# EAGLE library part ADS1292 (library James_custom)
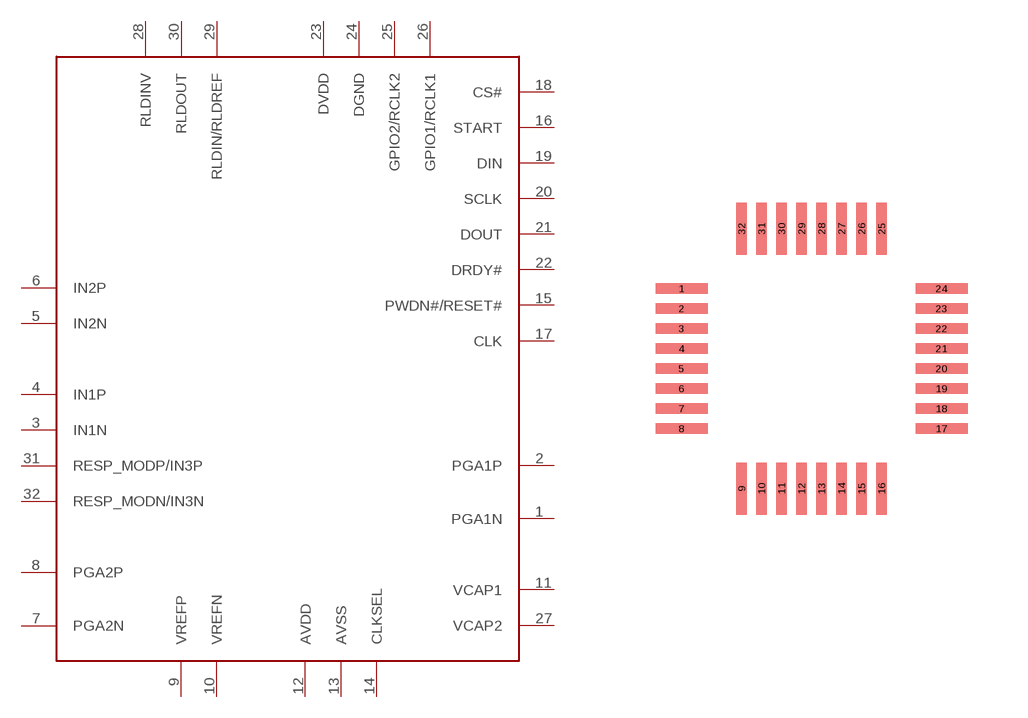
[diagram p26: symbol with the pads of TQFP32; footprint TQFP32]

Designator prefix -

## ADS1292  [TQFP32]
1  PGA1N
2  PGA1P
3  IN1N
4  IN1P
5  IN2N
6  IN2P
7  PGA2N
8  PGA2P
9  VREFP
10  VREFN
11  VCAP1
12  AVDD
13  AVSS
14  CLKSEL
15  PWDN#/RESET#
16  START
17  CLK
18  CS#
19  DIN
20  SCLK
21  DOUT
22  DRDY#
23  DVDD
24  DGND
25  GPIO2/RCLK2
26  GPIO1/RCLK1
27  VCAP2
28  RLDINV
29  RLDIN/RLDREF
30  RLDOUT
31  RESP_MODP/IN3P
32  RESP_MODN/IN3N

## Footprint TQFP32 (pad centres in mm)
smd 1.3 x 0.27: 1 -3.25,1.75; 2 -3.25,1.25; 3 -3.25,0.75; 4 -3.25,0.25; 5 -3.25,-0.25; 6 -3.25,-0.75; 7 -3.25,-1.25; 8 -3.25,-1.75; 17 3.25,-1.75; 18 3.25,-1.25; 19 3.25,-0.75; 20 3.25,-0.25; 21 3.25,0.25; 22 3.25,0.75; 23 3.25,1.25; 24 3.25,1.75
smd 0.27 x 1.3: 9 -1.75,-3.25; 10 -1.25,-3.25; 11 -0.75,-3.25; 12 -0.25,-3.25; 13 0.25,-3.25; 14 0.75,-3.25; 15 1.25,-3.25; 16 1.75,-3.25; 25 1.75,3.25; 26 1.25,3.25; 27 0.75,3.25; 28 0.25,3.25; 29 -0.25,3.25; 30 -0.75,3.25; 31 -1.25,3.25; 32 -1.75,3.25